# Altium schematic symbol library CSD83325L.SchLib: 2 symbols
Pins are listed as number, name and electrical type; pins without a type are passive.

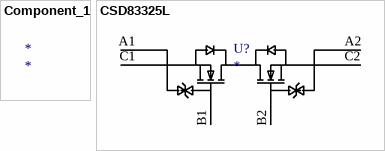
[diagram p0: symbols Component_1 to CSD83325L]

## Component_1
designator *

## CSD83325L
designator U?
Imported; PartNumber: CSD83325L; Manufacturer: Texas Instruments; CompType: MOSFET; ChType: N; Value: V; Value1: ? ohm; Value2: 8.4 nC; QgTyp_nC: 8.4; Vgs_V: 10; PIN_COUNT: 6; VALUE_2: Value; PackageReference: LGA, 6-Leads, Body 2.16x1.11mm, Pitch 0.65mm; RoHS: Y; MountType: SMT; Published: 2008-06-19; LatestRevisionNote: Added parts.; Supplier_1: Digi-Key; Supplier_Part_Number_1: CSD83325L-ND; Supplier_2: Mouser; Supplier_Part_Number_2: 595-CSD83325L; RefDes: RefDes; TYPE: TYPE; Value: Value
footprint YJE0006A
pins: A1 S1, A2 S2, B1 G1, B2 G2, C1 S1, C2 S2